# Altium footprint library Daxxn_Other.PcbLib: 8 footprints
Each footprint in its own frame and in the unit in brackets; x right, y up, seen from the top. Pads: shape width x height; smd on the part's side, far side on the other; paste and mask are expansions set on the pad; w line width, h text height; cw(c..) or ccw(c..) is an arc to the next point about the centre after c.
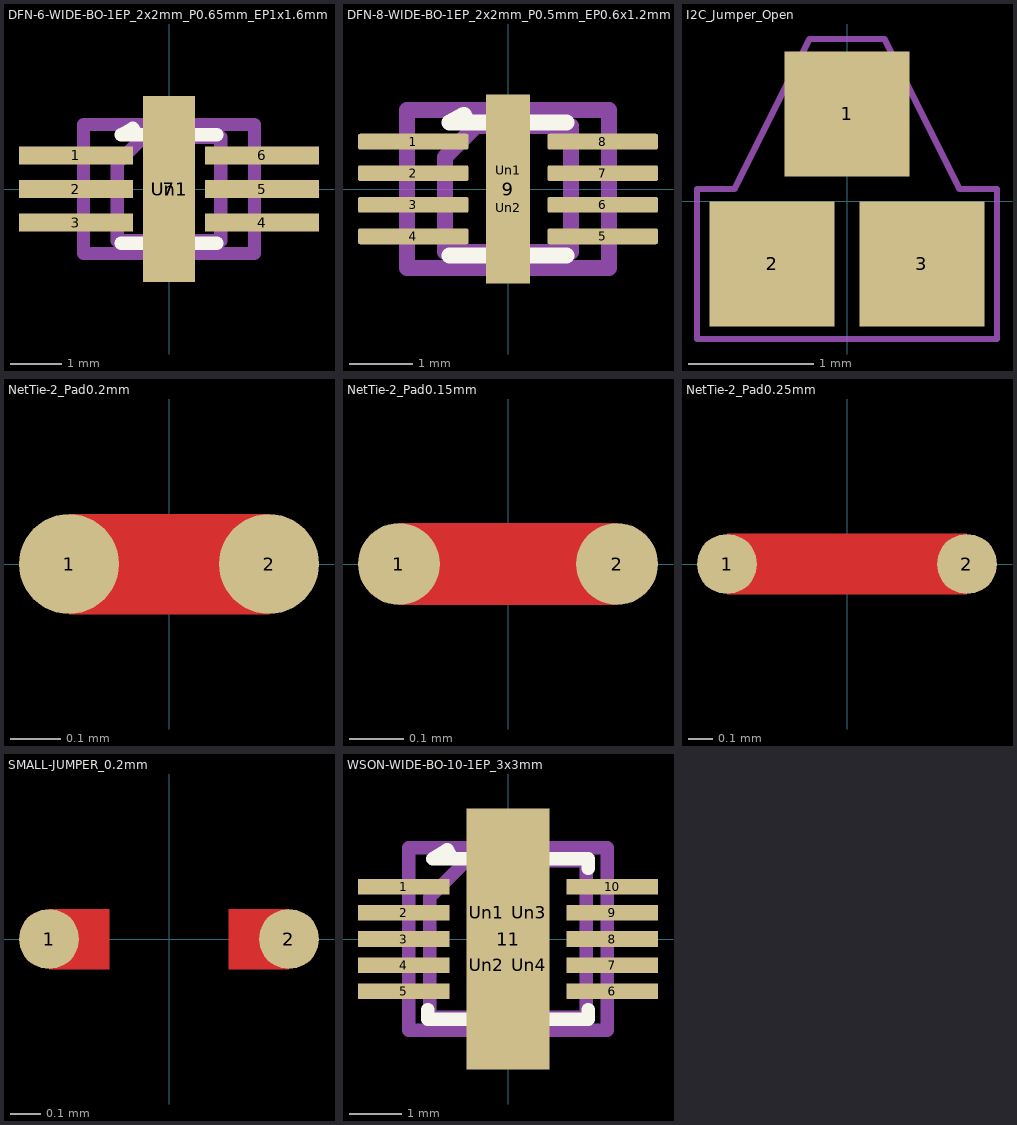
[diagram p0: the footprints below, top view; thin cyan lines are the x and y axes]

## DFN-6-WIDE-BO-1EP_2x2mm_P0.65mm_EP1x1.6mm [mm]
pads (8):
  rect 2.2x0.35 smd: 1(-1.8,0.65) 2(-1.8,0) 3(-1.8,-0.65) 4(1.8,-0.65) 5(1.8,0) 6(1.8,0.65)
  rect 1x3.6 smd: 7(0,0)
  rect 0.82x1 on Top Paste: Un1(0,0)
F.SilkS:
  lines w0.254: -0.925,-1.05 0.925,-1.05 ; -0.625,1.05 -0.7,1.175 -0.925,1.05 0.925,1.05
F.CrtYd:
  lines w0.254: -1.65,-1.25 -1.65,1.25 1.65,1.25 1.65,-1.25 -1.65,-1.25
F.Fab:
  lines w0.254: -1,-1 -1,0.5 -0.5,1 1,1 1,-1 -1,-1
  text "'.Designator'" at -1.037,-0.235 h0.25

## DFN-8-WIDE-BO-1EP_2x2mm_P0.5mm_EP0.6x1.2mm [mm]
pads (11):
  rrect25% 1.75x0.25 smd: 1(-1.5,0.75) 2(-1.5,0.25) 3(-1.5,-0.25) 4(-1.5,-0.75) 5(1.5,-0.75) 6(1.5,-0.25) 7(1.5,0.25) 8(1.5,0.75)
  rect 0.7x3 smd: 9(0,0)
  rrect25% 0.48x0.48 on Top Paste: Un1(0,0.3) Un2(0,-0.3)
F.SilkS:
  lines w0.254: -0.925,-1.05 0.925,-1.05 ; -0.625,1.05 -0.7,1.175 -0.925,1.05 0.925,1.05
F.CrtYd:
  lines w0.254: -1.6,-1.25 -1.6,1.25 1.6,1.25 1.6,-1.25 -1.6,-1.25
F.Fab:
  lines w0.254: -1,-1 -1,0.5 -0.5,1 1,1 1,-1 -1,-1
  text "'.Designator'" at -1.037,-0.01 h0.25

## I2C_Jumper_Open [mm]
pads (3):
  rect 1x1 smd: 1(0,0.7) 2(-0.6,-0.5) 3(0.6,-0.5)
F.Mask:
  region: 0.75,-0.9 -0.75,-0.9 -0.75,0.2 0.75,0.2
F.CrtYd:
  lines w0.05: -1.2,-1.1 -1.2,0.1 -0.9,0.1 -0.3,1.3 0,1.3 0.3,1.3 0.9,0.1 1.2,0.1 1.2,-1.1 -1.2,-1.1
F.Fab:
  text "'.Designator'" at -0.999,1.302 h0.25

## NetTie-2_Pad0.2mm [mm]
pads (2):
  round 0.2 smd: 1(-0.2,0) 2(0.2,0)
F.Cu:
  region: 0,-0.1 -0.2,-0.1 -0.2,0.1 0,0.1
  region: 0.2,-0.1 0,-0.1 0,0.1 0.2,0.1

## NetTie-2_Pad0.15mm [mm]
pads (2):
  round 0.15 smd: 1(-0.2,0) 2(0.2,0)
F.Cu:
  region: 0,-0.075 -0.2,-0.075 -0.2,0.075 0,0.075
  region: 0.2,-0.075 0,-0.075 0,0.075 0.2,0.075

## NetTie-2_Pad0.25mm [mm]
pads (2):
  round 0.25 smd: 1(-0.5,0) 2(0.5,0)
F.Cu:
  region: 0.5,-0.125 -0.5,-0.125 -0.5,0.125 0.5,0.125

## SMALL-JUMPER_0.2mm [mm]
pads (2):
  round 0.2 smd: 1(-0.4,0) 2(0.4,0)
F.Cu:
  region: -0.2,-0.1 -0.4,-0.1 -0.4,0.1 -0.2,0.1
  region: 0.4,-0.1 0.2,-0.1 0.2,0.1 0.4,0.1
F.Mask:
  region: 0.4,-0.1 -0.4,-0.1 -0.4,0.1 0.4,0.1
  lines w0.254: -0.4,-0.1 -0.4,0.1 0.4,0.1 0.4,-0.1 -0.4,-0.1
F.Fab:
  text "'.Designator'" at -0.829,-0.388 h0.2

## WSON-WIDE-BO-10-1EP_3x3mm [mm]
pads (15):
  rect 1.75x0.3 smd: 1(-2,1) 2(-2,0.5) 3(-2,0) 4(-2,-0.5) 5(-2,-1) 6(2,-1) 7(2,-0.5) 8(2,0) 9(2,0.5) 10(2,1)
  rect 1.6x5 smd: 11(0,0)
  rect 0.59x0.8 on Top Paste: Un1(-0.405,0.5) Un2(-0.405,-0.5) Un3(0.405,0.5) Un4(0.405,-0.5)
F.SilkS:
  lines w0.254: -1.54,-1.35 -1.54,-1.54 1.54,-1.54 1.54,-1.35 ; -1.065,1.54 -1.165,1.715 -1.44,1.54 1.54,1.54 1.54,1.35
F.CrtYd:
  lines w0.254: -1.9,-1.75 -1.9,1.75 1.9,1.75 1.9,-1.75 -1.9,-1.75
F.Fab:
  lines w0.254: -1.5,-1.5 -1.5,0.8 -0.8,1.5 1.5,1.5 1.5,-1.5 -1.5,-1.5
  text "'.Designator'" at -1.037,-0.035 h0.25